# Altium footprint library PCB.PcbLib: 11 footprints
Each footprint in its own frame and in the unit in brackets; x right, y up, seen from the top. Pads: shape width x height; smd on the part's side, far side on the other; paste and mask are expansions set on the pad; w line width, h text height; cw(c..) or ccw(c..) is an arc to the next point about the centre after c.
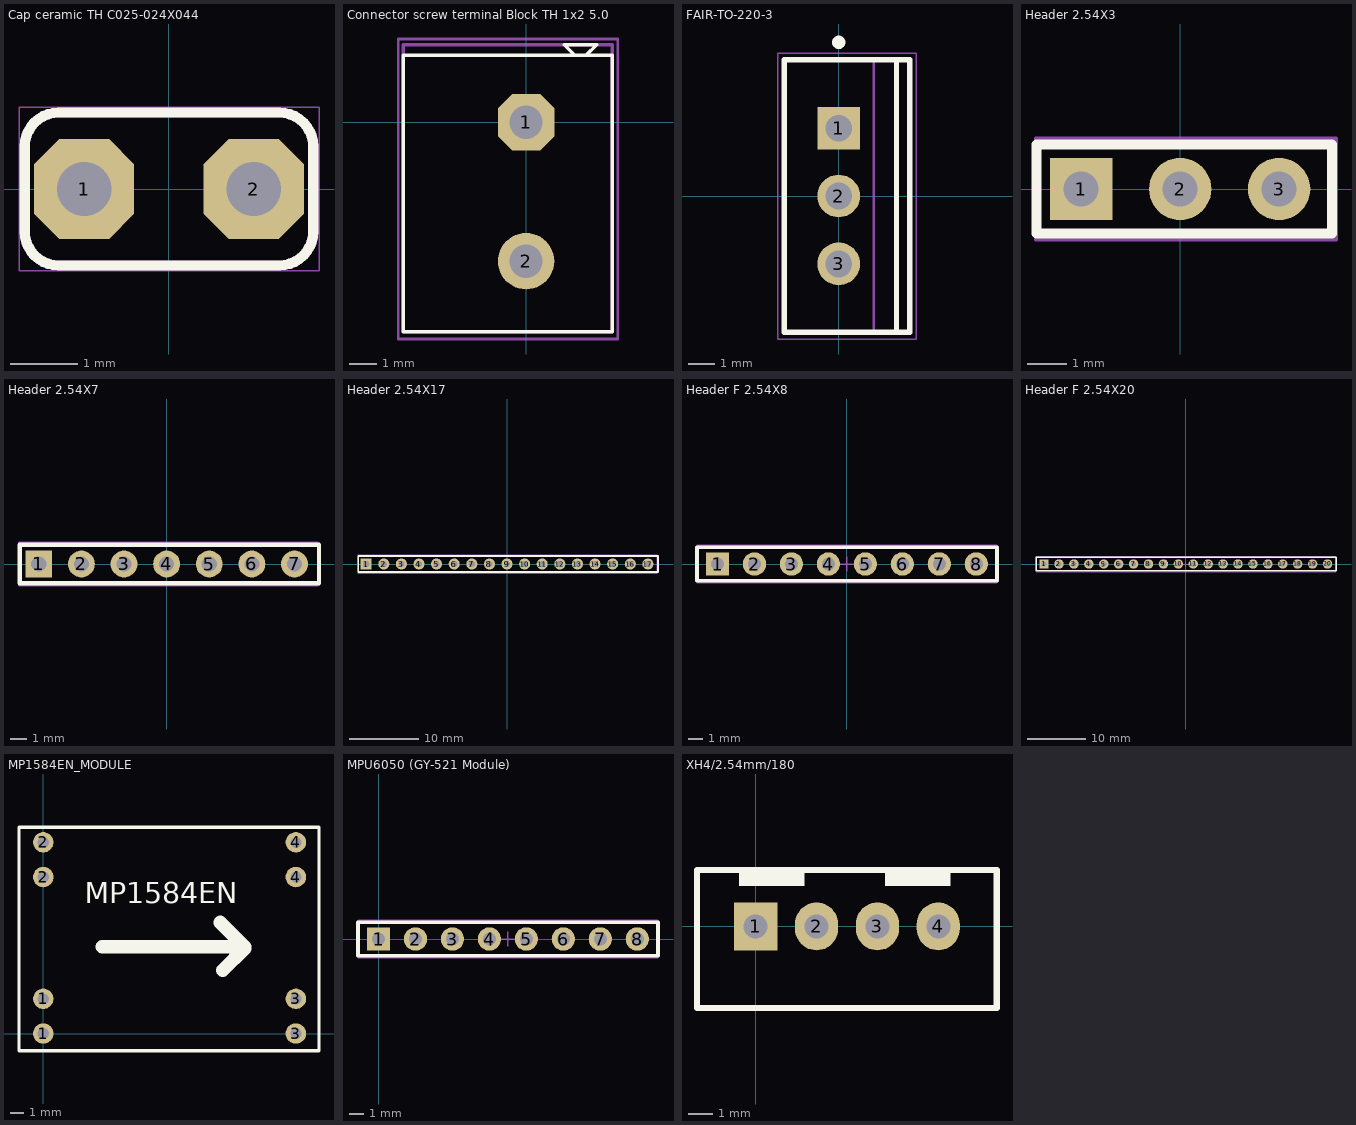
[diagram p0: the footprints below, top view; thin cyan lines are the x and y axes]

## Cap ceramic TH C025-024X044 [mm]
pads (2):
  oct 1.5x1.5 hole 0.813: 1(-1.27,0) 2(1.27,0)
Top Overlay:
  lines w0.152: -2.159,-0.635 ccw(c-1.651,-0.635) -1.651,-1.143 1.651,-1.143 ccw(c1.651,-0.635) 2.159,-0.635 2.159,0.635 ccw(c1.651,0.635) 1.651,1.143 -1.651,1.143 ccw(c-1.651,0.635) -2.159,0.635 -2.159,-0.635
  text ".Comment" at -2.225,1.5 h1
Top Designator:
  text ".Designator" at -1.501,-0.533 h1
Top 3D Body:
  lines w0.152: -2.159,-0.635 ccw(c-1.651,-0.635) -1.651,-1.143 1.651,-1.143 ccw(c1.651,-0.635) 2.159,-0.635 2.159,0.635 ccw(c1.651,0.635) 1.651,1.143 -1.651,1.143 ccw(c-1.651,0.635) -2.159,0.635 -2.159,-0.635
Top Courtyard:
  lines w0.02: -2.244,-1.225 2.245,-1.225 2.245,1.225 -2.244,1.225 -2.244,-1.225
3D body "10pF Ceramic Disc 3.STEP": height 7.35, standoff -22.68, extent -2.35,-1.25 2.35,1.25

## Connector screw terminal Block TH 1x2 5.0 [mil]
pads (2):
  oct 80x80 hole 47.24: 1(0,0)
  round 80 hole 47.24: 2(0,-196.85)
Top Overlay:
  lines w5: 67.68,96.57 54.25,110 100,110 85,95 ; -173.95,-296.7 -173.95,95 122.05,95 122.05,-296.7 -173.95,-296.7
Top Designator:
  text ".Designator" at -15.68,-111.54 h39.37
Top 3D Body:
  lines w5.04: -173.89,-296.75 121.99,-296.75 121.99,109.68 -173.89,109.68 -173.89,-296.75
Top Courtyard:
  lines w3.94: -181.1,-307.09 -181.1,118.11 129.92,118.11 129.92,-307.09 -181.1,-307.09
3D body "ScrewTerminal.STEP": height 399.31, standoff -171.56, extent -175,-297.54 124.21,107.53

## FAIR-TO-220-3 [mm] "FM, 3-Leads, Body 10.2x4.7mm, Pitch 2.54mm"
height 18.95
pads (3):
  rect 1.6x1.6 hole 1: 1(0,2.54)
  round 1.6 hole 1: 2(0,0) 3(0,-2.54)
Top Overlay:
  circle w0.25: c0,5.75 r0.125
  lines w0.2: 2.16,-5.1 2.16,5.1 ; -2.04,-5.1 -2.04,5.1 2.66,5.1 2.66,-5.1 -2.04,-5.1
Top 3D Body:
  lines w0.1: 1.31,-5.1 1.31,5.1 ; -2.04,-5.1 2.66,-5.1 2.66,5.1 -2.04,5.1 -2.04,-5.1
Top Courtyard:
  lines w0.05: -2.29,-5.35 2.91,-5.35 2.91,5.35 -2.29,5.35 -2.29,-5.35
  lines w0.1: -0.5,0 0.5,0 ; 0,-0.5 0,0.5
3D body: height 18.95, standoff 17.95, extent 1.31,-4.95 2.66,4.95
3D body: height 16.51, standoff 16.15, extent 1.31,-4.95 2.66,-1.8
3D body: height 16.51, standoff 16.15, extent 1.31,1.8 2.66,4.95
3D body: height 16.15, standoff 15.8, extent 1.31,-4.95 2.66,-1.8
3D body: height 16.15, standoff 15.8, extent 1.31,1.8 2.66,4.95
3D body: height 16.84, standoff 16.5, extent 1.31,-4.95 2.66,-1.765
3D body: height 16.84, standoff 16.5, extent 1.31,1.765 2.66,4.95
3D body: height 15.8, standoff 15.46, extent 1.31,-4.95 2.66,-1.765
3D body: height 15.8, standoff 15.46, extent 1.31,1.765 2.66,4.95
3D body: height 17.16, standoff 16.84, extent 1.31,-4.95 2.66,-1.663
3D body: height 17.16, standoff 16.84, extent 1.31,1.663 2.66,4.95
3D body: height 15.47, standoff 15.15, extent 1.31,-4.95 2.66,-1.663
3D body: height 15.47, standoff 15.15, extent 1.31,1.663 2.66,4.95
3D body: height 17.43, standoff 17.15, extent 1.31,-4.95 2.66,-1.497
3D body: height 17.43, standoff 17.15, extent 1.31,1.497 2.66,4.95
3D body: height 15.15, standoff 14.88, extent 1.31,-4.95 2.66,-1.497
3D body: height 15.15, standoff 14.88, extent 1.31,1.497 2.66,4.95
3D body: height 17.65, standoff 17.42, extent 1.31,-4.95 2.66,-1.273
3D body: height 17.65, standoff 17.42, extent 1.31,1.273 2.66,4.95
3D body: height 14.88, standoff 14.65, extent 1.31,-4.95 2.66,-1.273
3D body: height 14.88, standoff 14.65, extent 1.31,1.273 2.66,4.95
3D body: height 17.82, standoff 17.65, extent 1.31,-4.95 2.66,-1
3D body: height 17.82, standoff 17.65, extent 1.31,1 2.66,4.95
3D body: height 14.66, standoff 14.49, extent 1.31,-4.95 2.66,-1
3D body: height 14.66, standoff 14.49, extent 1.31,1 2.66,4.95
3D body: height 17.92, standoff 17.81, extent 1.31,-4.95 2.66,-0.689
3D body: height 17.92, standoff 17.81, extent 1.31,0.689 2.66,4.95
3D body: height 14.49, standoff 14.38, extent 1.31,-4.95 2.66,-0.689
3D body: height 14.49, standoff 14.38, extent 1.31,0.689 2.66,4.95
3D body: height 17.95, standoff 17.92, extent 1.31,-4.95 2.66,-0.351
3D body: height 17.95, standoff 17.92, extent 1.31,0.351 2.66,4.95
3D body: height 14.39, standoff 14.35, extent 1.31,-4.95 2.66,-0.351
3D body: height 14.39, standoff 14.35, extent 1.31,0.351 2.66,4.95
3D body: height 14.35, standoff 12.2, extent 1.31,-4.95 2.66,4.95
3D body: height 12.2, standoff 3, extent -2.04,-5.1 2.66,5.1
3D body: height 0, standoff -1.6, extent -0.265,-2.94 0.265,-2.14
3D body: height 3, standoff 0, extent -0.265,-3.3 0.265,-1.78
3D body: height 0, standoff -1.6, extent -0.265,-0.4 0.265,0.4
3D body: height 3, standoff 0, extent -0.265,-0.76 0.265,0.76
3D body: height 0, standoff -1.6, extent -0.265,2.14 0.265,2.94
3D body: height 3, standoff 0, extent -0.265,1.78 0.265,3.3

## Header 2.54X3 [mm]
pads (3):
  rect 1.6x1.6 hole 0.9: 1(-2.54,0)
  round 1.6 hole 0.9: 2(0,0) 3(2.54,0)
Top Overlay:
  lines w0.254: -3.683,-1.143 3.9,-1.143 3.9,1.143 -3.683,1.143 -3.683,-1.143
Top Designator:
  text ".Designator" at -4.878,-0.333 h1
Top Courtyard:
  lines w0.1: -3.7,-1.3 4,-1.3 4,1.3 -3.7,1.3 -3.7,-1.3
3D body "HEADER 2.54X3.stp": height 8.3, standoff -2.9, extent -3.683,-1.228 3.937,1.27

## Header 2.54X7 [mm]
pads (7):
  rect 1.6x1.6 hole 0.9: 1(-7.62,0)
  round 1.6 hole 0.9: 2(-5.08,0) 3(-2.54,0) 4(0,0) 5(2.54,0) 6(5.08,0) 7(7.62,0)
Top Overlay:
  lines w0.254: -8.763,-1.143 -8.763,1.143 9.08,1.143 9.08,-1.143 -8.763,-1.143
Top Designator:
  text ".Designator" at -4.84,-0.333 h1
Top Courtyard:
  lines w0.1: -8.8,-1.3 -8.8,1.3 9,1.3 9,-1.3 -8.8,-1.3
3D body "HEADER 2.54X7.stp": height 8.3, standoff -2.9, extent -8.763,-1.228 9.017,1.27

## Header 2.54X17 [mm]
pads (17):
  rect 1.6x1.6 hole 0.9: 1(-20.32,0)
  round 1.6 hole 0.9: 2(-17.78,0) 3(-15.24,0) 4(-12.7,0) 5(-10.16,0) 6(-7.62,0) 7(-5.08,0) 8(-2.54,0) 9(0,0) 10(2.54,0) 11(5.08,0) 12(7.62,0) 13(10.16,0) 14(12.7,0) 15(15.24,0) 16(17.78,0) 17(20.32,0)
Top Overlay:
  lines w0.254: -21.463,-1.143 -21.463,1.143 21.78,1.143 21.78,-1.143 -21.463,-1.143
Top Designator:
  text ".Designator" at -4.84,-0.333 h1
Top Courtyard:
  lines w0.1: -21.5,-1.3 -21.5,1.3 21.7,1.3 21.7,-1.3 -21.5,-1.3
3D body "HEADER 2.54X17.stp": height 8.3, standoff -2.9, extent -21.463,-1.228 21.717,1.27

## Header F 2.54X8 [mm]
pads (8):
  rect 1.6x1.6 hole 0.9: 1(-8.89,0)
  round 1.6 hole 0.9: 2(-6.35,0) 3(-3.81,0) 4(-1.27,0) 5(1.27,0) 6(3.81,0) 7(6.35,0) 8(8.89,0)
Top Overlay:
  lines w0.254: -10.3,-1.143 10.31,-1.143 10.31,1.143 -10.3,1.143 -10.3,-1.143
Top Designator:
  text ".Designator" at -4.993,-0.333 h1
Top Courtyard:
  lines w0.1: -0.5,0 0.5,0 ; 0,-0.5 0,0.5 ; -10.3,-1.3 10.3,-1.3 10.3,1.3 -10.3,1.3 -10.3,-1.3
3D body "Header-F-2.54X8.stp": height 8.6, standoff -3.1, extent -10.285,-1.26 10.285,1.24

## Header F 2.54X20 [mm]
pads (20):
  rect 1.6x1.6 hole 0.9: 1(-24.13,0)
  round 1.6 hole 0.9: 2(-21.59,0) 3(-19.05,0) 4(-16.51,0) 5(-13.97,0) 6(-11.43,0) 7(-8.89,0) 8(-6.35,0) 9(-3.81,0) 10(-1.27,0) 11(1.27,0) 12(3.81,0) 13(6.35,0) 14(8.89,0) 15(11.43,0) 16(13.97,0) 17(16.51,0) 18(19.05,0) 19(21.59,0) 20(24.13,0)
Top Overlay:
  lines w0.254: -25.5,-1.143 -25.5,1.143 25.57,1.143 25.57,-1.143 -25.5,-1.143
Top Designator:
  text ".Designator" at -4.963,-0.333 h1
Top Courtyard:
  lines w0.1: -0.5,0 0.5,0 ; 0,-0.5 0,0.5 ; -25.5,-1.3 -25.5,1.3 25.5,1.3 25.5,-1.3 -25.5,-1.3
3D body "Header-F-2.54X20.stp": height 8.6, standoff -3.1, extent -25.53,-1.26 25.52,1.24

## MP1584EN_MODULE [mm]
pads (8):
  round 1.5 hole 0.813: 1(0,0) 1(0,2.54) 2(0,11.46) 2(0,14) 3(18.5,0) 3(18.5,2.54) 4(18.5,11.46) 4(18.5,14)
Top Overlay:
  lines w0.254: -1.778,-1.27 20.193,-1.27 20.193,15.113 -1.778,15.113 -1.778,-1.27
  lines w1: 4.318,6.35 14.732,6.35 ; 12.954,8.128 14.732,6.35 ; 13.144,4.635 14.732,6.223 ; 14.605,6.223 14.732,6.223 ; 14.732,6.223 14.732,6.35
  text "MP1584EN" at 3.048,9.525 h1.52
3D body "MP1584EN.step": height 12, standoff -3.3, extent -1.729,-1.27 20.271,15.24

## MPU6050 (GY-521 Module) [mm]
pads (8):
  rect 1.6x1.6 hole 0.9: 1(0,0)
  round 1.6 hole 0.9: 2(2.54,0) 3(5.08,0) 4(7.62,0) 5(10.16,0) 6(12.7,0) 7(15.24,0) 8(17.78,0)
Top Overlay:
  lines w0.254: -1.41,-1.143 19.2,-1.143 19.2,1.143 -1.41,1.143 -1.41,-1.143
Top Courtyard:
  lines w0.1: 8.39,0 9.39,0 ; 8.89,-0.5 8.89,0.5 ; -1.41,-1.3 19.19,-1.3 19.19,1.3 -1.41,1.3 -1.41,-1.3
3D body "Header-F-2.54X8.stp": height 8.6, standoff -3.1, extent -1.395,-1.26 19.175,1.24
3D body "GY-91_MPU9250+BMP280 - Pins Down.STEP": height 14.87, standoff 2.01, extent -1.27,-1.27 19.05,12.63

## XH4/2.54mm/180 [mm]
pads (4):
  rect 1.8x2 hole 1: 1(0,0)
  oval 1.8x2 hole 1: 2(2.54,0) 3(5.08,0) 4(7.62,0)
Top Overlay:
  rectangle: 5.391,1.692 8.128,2.342
  rectangle: -0.704,1.692 2.032,2.342
  lines w0.24: -2.45,0 -2.45,2.35
  lines w0.254: -2.45,0 -2.45,-3.4 ; 10.058,-3.4 10.058,2.325 ; -2.45,-3.4 10.07,-3.4 ; -2.45,-3.4 -2.45,2.35 10.07,2.35 ; 10.07,-3.4 10.07,2.35 ; 10.07,-3.4 10.07,0 10.07,2.35
Top Designator:
  text ".Designator" at -1.188,-0.858 h1
3D body "User Library-B4B-XH-A.STEP": height 7, standoff -3.4, extent -2.39,-3.302 10.01,2.448